# EAGLE library part MCF5272 (library untitled)
MCF5272 ColdFire MAPBGA-196 PINS Package SM
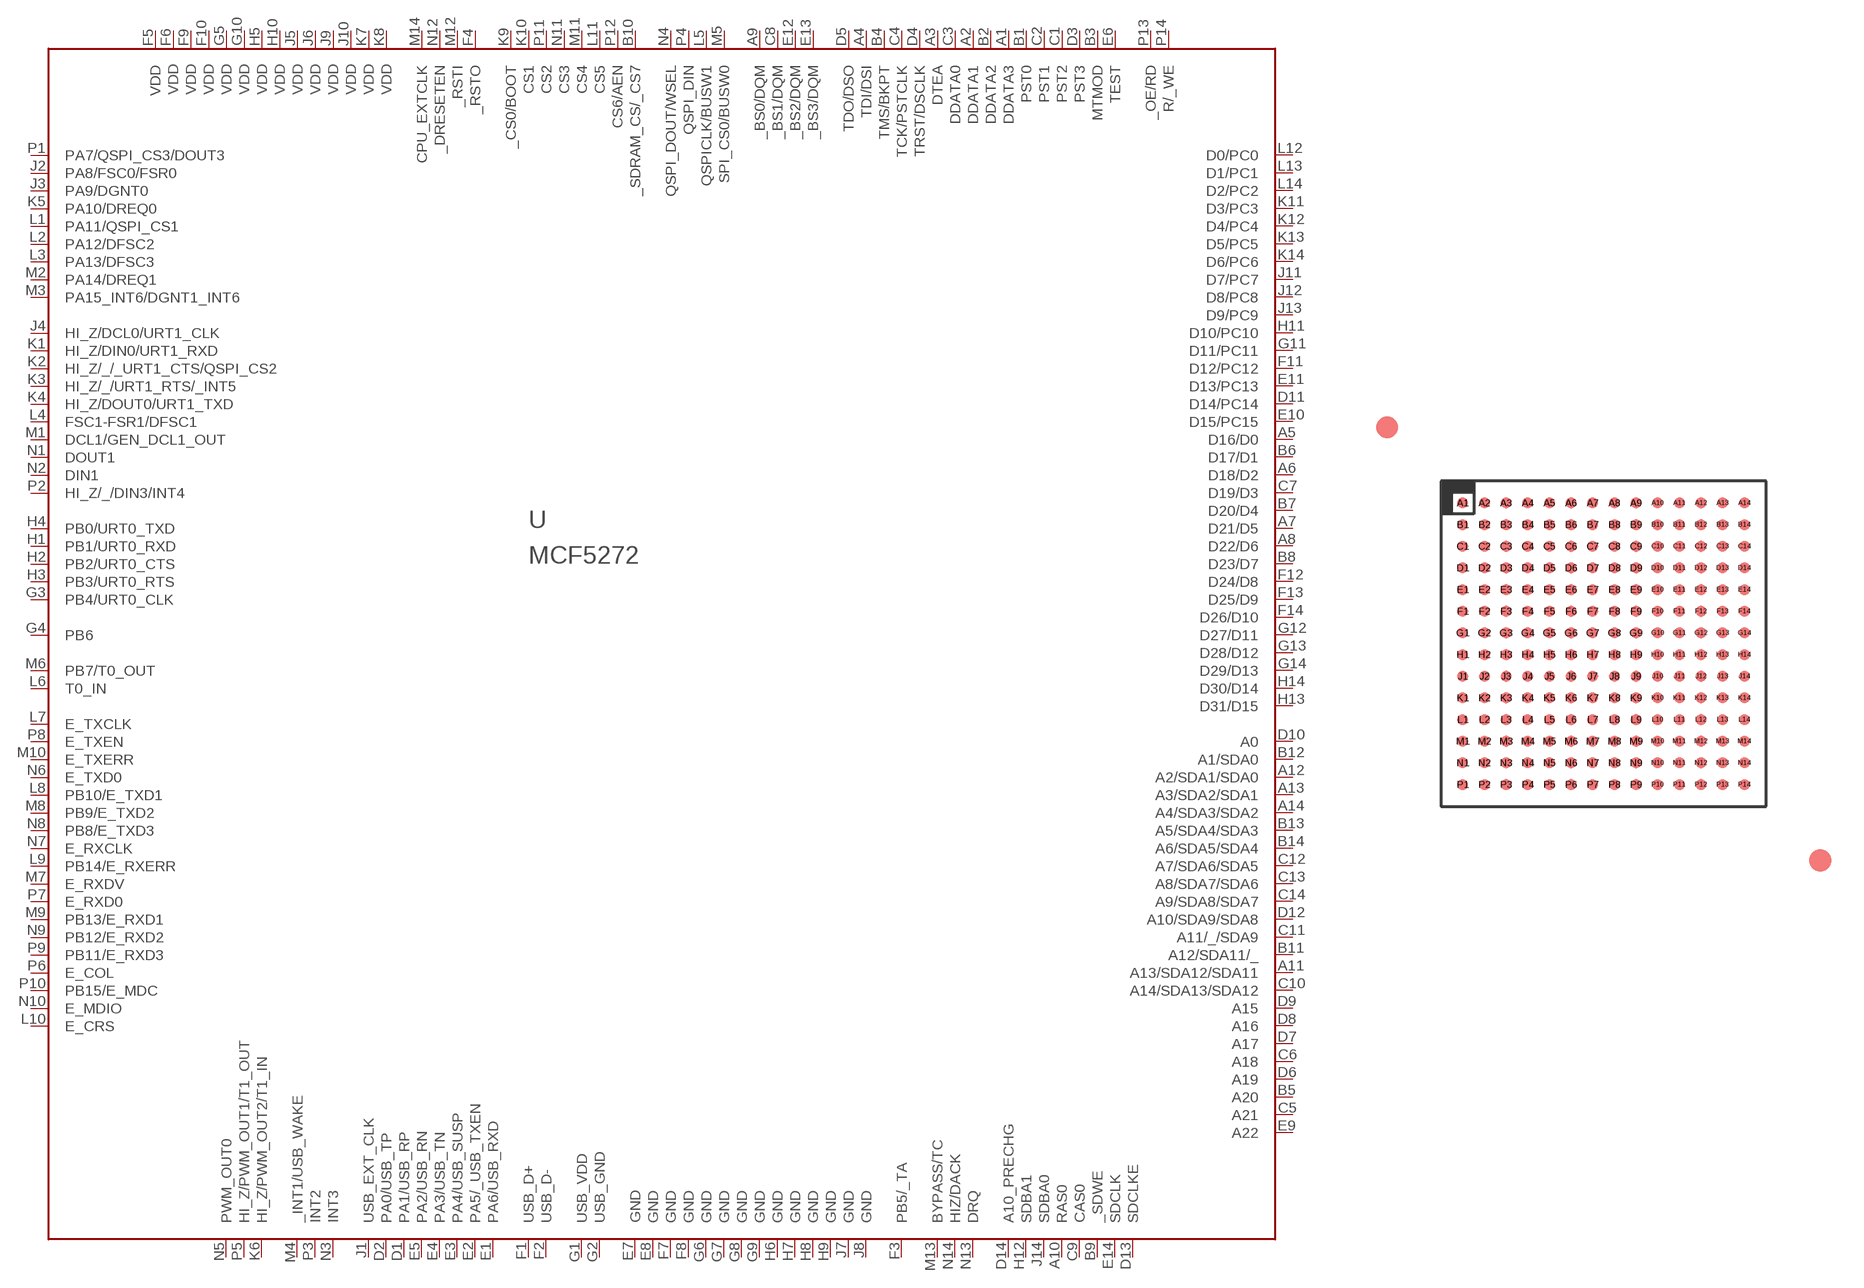
[diagram p0: symbol with the pads of MAPBGA-196; footprint MAPBGA-196]

Designator prefix U

## MCF5272-MAPBGA196  [MAPBGA-196]
A1  DDATA3
A2  DDATA1
A3  DTEA
A4  TDI/DSI
A5  D16/D0
A6  D18/D2
A7  D21/D5
A8  D22/D6
A9  _BS0/DQM  out
A10  RAS0
A11  A13/SDA12/SDA11
A12  A2/SDA1/SDA0
A13  A3/SDA2/SDA1
A14  A4/SDA3/SDA2
B1  PST0
B2  DDATA2
B3  MTMOD
B4  TMS/BKPT
B5  A20
B6  D17/D1
B7  D20/D4
B8  D23/D7
B9  _SDWE
B10  _SDRAM_CS/_CS7
B11  A12/SDA11/_
B12  A1/SDA0
B13  A5/SDA4/SDA3
B14  A6/SDA5/SDA4
C1  PST2
C2  PST1
C3  DDATA0
C4  TCK/PSTCLK
C5  A21
C6  A18
C7  D19/D3
C8  _BS1/DQM  out
C9  CAS0
C10  A14/SDA13/SDA12
C11  A11/_/SDA9
C12  A7/SDA6/SDA5
C13  A8/SDA7/SDA6
C14  A9/SDA8/SDA7
D1  PA1/USB_RP
D2  PA0/USB_TP
D3  PST3
D4  TRST/DSCLK
D5  TDO/DSO
D6  A19
D7  A17
D8  A16
D9  A15
D10  A0
D11  D14/PC14
D12  A10/SDA9/SDA8
D13  SDCLKE
D14  A10_PRECHG
E1  PA6/USB_RXD
E2  PA5/_USB_TXEN
E3  PA4/USB_SUSP
E4  PA3/USB_TN
E5  PA2/USB_RN
E6  TEST
E7  GND
E8  GND
E9  A22
E10  D15/PC15
E11  D13/PC13
E12  _BS2/DQM  out
E13  _BS3/DQM  out
E14  SDCLK
F1  USB_D+
F2  USB_D-
F3  PB5/_TA
F4  _RSTO
F5  VDD
F6  VDD
F7  GND
F8  GND
F9  VDD
F10  VDD
F11  D12/PC12
F12  D24/D8
F13  D25/D9
F14  D26/D10
G1  USB_VDD
G2  USB_GND
G3  PB4/URT0_CLK
G4  PB6
G5  VDD
G6  GND
G7  GND
G8  GND
G9  GND
G10  VDD
G11  D11/PC11
G12  D27/D11
G13  D28/D12
G14  D29/D13
H1  PB1/URT0_RXD
H2  PB2/URT0_CTS
H3  PB3/URT0_RTS
H4  PB0/URT0_TXD
H5  VDD
H6  GND
H7  GND
H8  GND
H9  GND
H10  VDD
H11  D10/PC10
H12  SDBA1
H13  D31/D15
H14  D30/D14
J1  USB_EXT_CLK
J2  PA8/FSC0/FSR0
J3  PA9/DGNT0
J4  HI_Z/DCL0/URT1_CLK
J5  VDD
J6  VDD
J7  GND
J8  GND
J9  VDD
J10  VDD
J11  D7/PC7
J12  D8/PC8
J13  D9/PC9
J14  SDBA0
K1  HI_Z/DIN0/URT1_RXD
K2  HI_Z/_/_URT1_CTS/QSPI_CS2
K3  HI_Z/_/URT1_RTS/_INT5
K4  HI_Z/DOUT0/URT1_TXD
K5  PA10/DREQ0
K6  HI_Z/PWM_OUT2/T1_IN
K7  VDD
K8  VDD
K9  _CS0/BOOT  out
K10  CS1  out
K11  D3/PC3
K12  D4/PC4
K13  D5/PC5
K14  D6/PC6
L1  PA11/QSPI_CS1
L2  PA12/DFSC2
L3  PA13/DFSC3
L4  FSC1-FSR1/DFSC1
L5  QSPICLK/BUSW1
L6  T0_IN
L7  E_TXCLK
L8  PB10/E_TXD1
L9  PB14/E_RXERR
L10  E_CRS
L11  CS5  out
L12  D0/PC0
L13  D1/PC1
L14  D2/PC2
M1  DCL1/GEN_DCL1_OUT
M2  PA14/DREQ1
M3  PA15_INT6/DGNT1_INT6
M4  _INT1/USB_WAKE
M5  SPI_CS0/BUSW0
M6  PB7/T0_OUT
M7  E_RXDV
M8  PB9/E_TXD2
M9  PB13/E_RXD1
M10  E_TXERR
M11  CS4  out
M12  _RSTI
M13  BYPASS/TC
M14  CPU_EXTCLK
N1  DOUT1
N2  DIN1
N3  INT3
N4  QSPI_DOUT/WSEL
N5  PWM_OUT0
N6  E_TXD0
N7  E_RXCLK
N8  PB8/E_TXD3
N9  PB12/E_RXD2
N10  E_MDIO
N11  CS3  out
N12  _DRESETEN
N13  DRQ
N14  HIZ/DACK
P1  PA7/QSPI_CS3/DOUT3
P2  HI_Z/_/DIN3/INT4
P3  INT2
P4  QSPI_DIN
P5  HI_Z/PWM_OUT1/T1_OUT
P6  E_COL
P7  E_RXD0
P8  E_TXEN
P9  PB11/E_RXD3
P10  PB15/E_MDC
P11  CS2  out
P12  CS6/AEN  out
P13  _OE/RD  out
P14  R/_WE  out

## Footprint MAPBGA-196 (pad centres in mm)
MAPBGA 196 PINS Motorola ColdFire SM
smd 0.5 x 0.5: A1 -6.5,6.5; A2 -5.5,6.5; A3 -4.5,6.5; A4 -3.5,6.5; A5 -2.5,6.5; A6 -1.5,6.5; A7 -0.5,6.5; A8 0.5,6.5; A9 1.5,6.5; A10 2.5,6.5; A11 3.5,6.5; A12 4.5,6.5; A13 5.5,6.5; A14 6.5,6.5; B1 -6.5,5.5; B2 -5.5,5.5; B3 -4.5,5.5; B4 -3.5,5.5; B5 -2.5,5.5; B6 -1.5,5.5; B7 -0.5,5.5; B8 0.5,5.5; B9 1.5,5.5; B10 2.5,5.5; B11 3.5,5.5; B12 4.5,5.5; B13 5.5,5.5; B14 6.5,5.5; C1 -6.5,4.5; C2 -5.5,4.5; C3 -4.5,4.5; C4 -3.5,4.5; C5 -2.5,4.5; C6 -1.5,4.5; C7 -0.5,4.5; C8 0.5,4.5; C9 1.5,4.5; C10 2.5,4.5; C11 3.5,4.5; C12 4.5,4.5; C13 5.5,4.5; C14 6.5,4.5; D1 -6.5,3.5; D2 -5.5,3.5; D3 -4.5,3.5; D4 -3.5,3.5; D5 -2.5,3.5; D6 -1.5,3.5; D7 -0.5,3.5; D8 0.5,3.5; D9 1.5,3.5; D10 2.5,3.5; D11 3.5,3.5; D12 4.5,3.5; D13 5.5,3.5; D14 6.5,3.5; E1 -6.5,2.5; E2 -5.5,2.5; E3 -4.5,2.5; E4 -3.5,2.5; E5 -2.5,2.5; E6 -1.5,2.5; E7 -0.5,2.5; E8 0.5,2.5; E9 1.5,2.5; E10 2.5,2.5; E11 3.5,2.5; E12 4.5,2.5; E13 5.5,2.5; E14 6.5,2.5; F1 -6.5,1.5; F2 -5.5,1.5; F3 -4.5,1.5; F4 -3.5,1.5; F5 -2.5,1.5; F6 -1.5,1.5; F7 -0.5,1.5; F8 0.5,1.5; F9 1.5,1.5; F10 2.5,1.5; F11 3.5,1.5; F12 4.5,1.5; F13 5.5,1.5; F14 6.5,1.5; G1 -6.5,0.5; G2 -5.5,0.5; G3 -4.5,0.5; G4 -3.5,0.5; G5 -2.5,0.5; G6 -1.5,0.5; G7 -0.5,0.5; G8 0.5,0.5; G9 1.5,0.5; G10 2.5,0.5; G11 3.5,0.5; G12 4.5,0.5; G13 5.5,0.5; G14 6.5,0.5; H1 -6.5,-0.5; H2 -5.5,-0.5; H3 -4.5,-0.5; H4 -3.5,-0.5; H5 -2.5,-0.5; H6 -1.5,-0.5; H7 -0.5,-0.5; H8 0.5,-0.5; H9 1.5,-0.5; H10 2.5,-0.5; H11 3.5,-0.5; H12 4.5,-0.5; H13 5.5,-0.5; H14 6.5,-0.5; J1 -6.5,-1.5; J2 -5.5,-1.5; J3 -4.5,-1.5; J4 -3.5,-1.5; J5 -2.5,-1.5; J6 -1.5,-1.5; J7 -0.5,-1.5; J8 0.5,-1.5; J9 1.5,-1.5; J10 2.5,-1.5; J11 3.5,-1.5; J12 4.5,-1.5; J13 5.5,-1.5; J14 6.5,-1.5; K1 -6.5,-2.5; K2 -5.5,-2.5; K3 -4.5,-2.5; K4 -3.5,-2.5; K5 -2.5,-2.5; K6 -1.5,-2.5; K7 -0.5,-2.5; K8 0.5,-2.5; K9 1.5,-2.5; K10 2.5,-2.5; K11 3.5,-2.5; K12 4.5,-2.5; K13 5.5,-2.5; K14 6.5,-2.5; L1 -6.5,-3.5; L2 -5.5,-3.5; L3 -4.5,-3.5; L4 -3.5,-3.5; L5 -2.5,-3.5; L6 -1.5,-3.5; L7 -0.5,-3.5; L8 0.5,-3.5; L9 1.5,-3.5; L10 2.5,-3.5; L11 3.5,-3.5; L12 4.5,-3.5; L13 5.5,-3.5; L14 6.5,-3.5; M1 -6.5,-4.5; M2 -5.5,-4.5; M3 -4.5,-4.5; M4 -3.5,-4.5; M5 -2.5,-4.5; M6 -1.5,-4.5; M7 -0.5,-4.5; M8 0.5,-4.5; M9 1.5,-4.5; M10 2.5,-4.5; M11 3.5,-4.5; M12 4.5,-4.5; M13 5.5,-4.5; M14 6.5,-4.5; N1 -6.5,-5.5; N2 -5.5,-5.5; N3 -4.5,-5.5; N4 -3.5,-5.5; N5 -2.5,-5.5; N6 -1.5,-5.5; N7 -0.5,-5.5; N8 0.5,-5.5; N9 1.5,-5.5; N10 2.5,-5.5; N11 3.5,-5.5; N12 4.5,-5.5; N13 5.5,-5.5; N14 6.5,-5.5; P1 -6.5,-6.5; P2 -5.5,-6.5; P3 -4.5,-6.5; P4 -3.5,-6.5; P5 -2.5,-6.5; P6 -1.5,-6.5; P7 -0.5,-6.5; P8 0.5,-6.5; P9 1.5,-6.5; P10 2.5,-6.5; P11 3.5,-6.5; P12 4.5,-6.5; P13 5.5,-6.5; P14 6.5,-6.5